# Altium footprint library ADI.PcbLib: 25 footprints (part 3 of 4)
Each footprint in its own frame and in the unit in brackets; x right, y up, seen from the top. Pads: shape width x height; smd on the part's side, far side on the other; paste and mask are expansions set on the pad; w line width, h text height; cw(c..) or ccw(c..) is an arc to the next point about the centre after c.
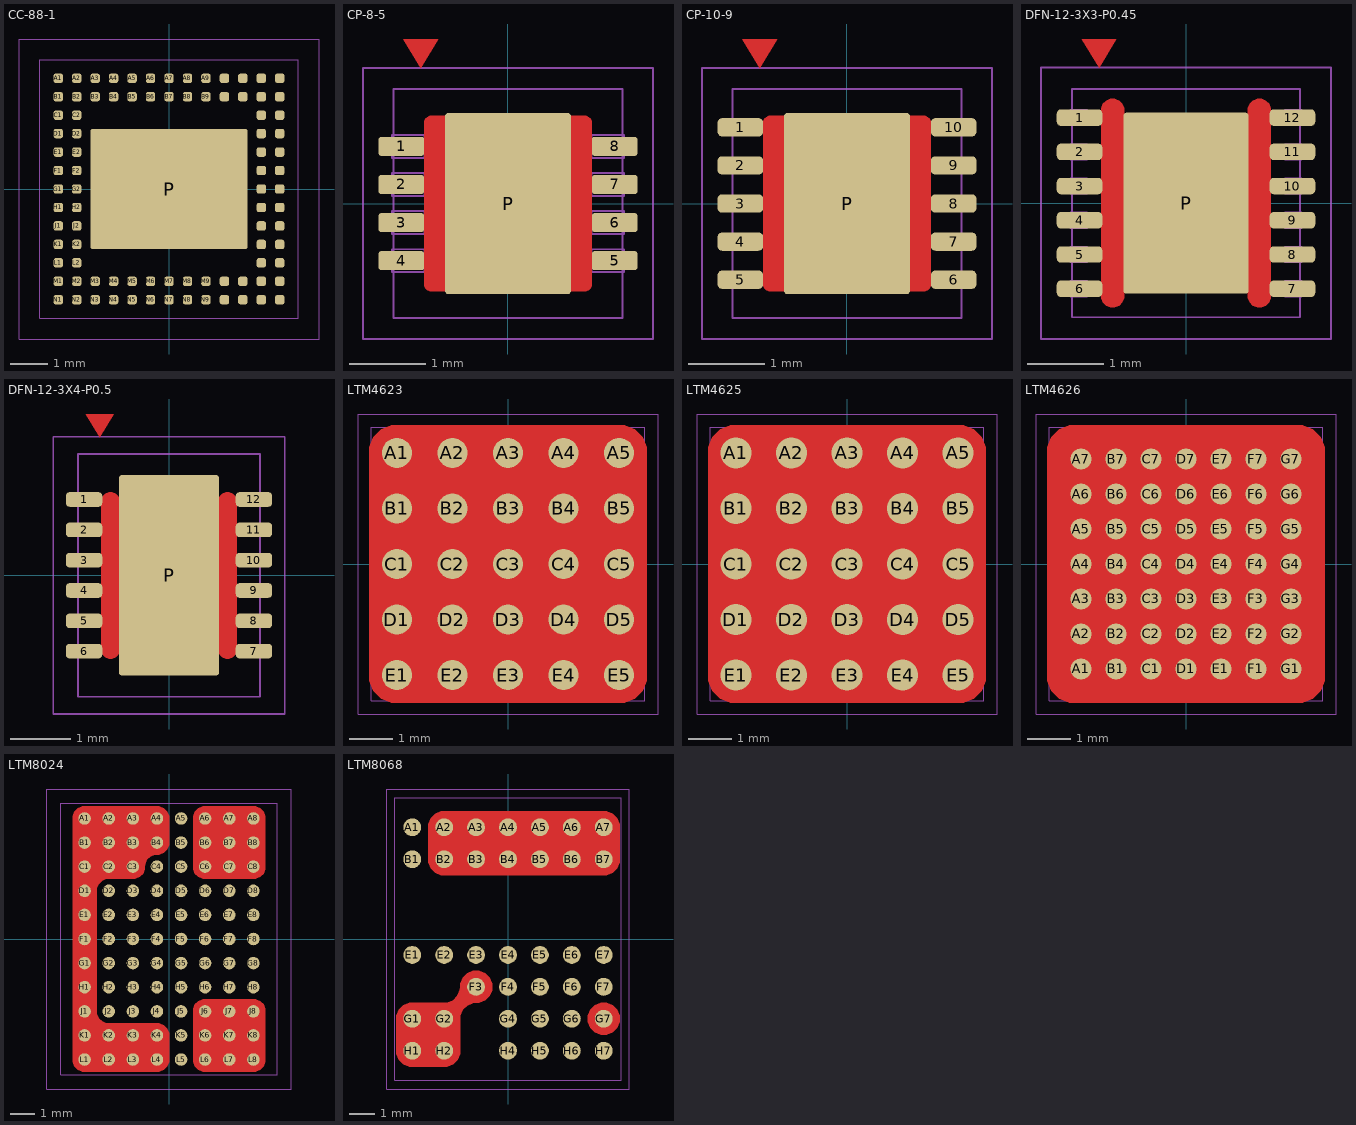
[diagram p2: the footprints below, top view; thin cyan lines are the x and y axes]

## CC-88-1 [mil]
height 31.5
pads (89):
  rrect50% 10x10 smd mask+1.5: A1(-118.11,118.11) A2(-98.42,118.11) A3(-78.74,118.11) A4(-59.05,118.11) A5(-39.37,118.11) A6(-19.68,118.11) A7(0,118.11) A8(19.68,118.11) A9(39.37,118.11) A10(59.05,118.11) A11(78.74,118.11) A12(98.42,118.11) A13(118.11,118.11) B1(-118.11,98.42) B2(-98.42,98.42) B3(-78.74,98.42) B4(-59.05,98.42) B5(-39.37,98.42) B6(-19.68,98.42) B7(0,98.42) B8(19.68,98.42) B9(39.37,98.42) B10(59.05,98.42) B11(78.74,98.42) B12(98.42,98.42) B13(118.11,98.42) C1(-118.11,78.74) C2(-98.42,78.74) C12(98.42,78.74) C13(118.11,78.74) D1(-118.11,59.05) D2(-98.42,59.05) D12(98.42,59.05) D13(118.11,59.05) E1(-118.11,39.37) E2(-98.42,39.37) E12(98.42,39.37) E13(118.11,39.37) F1(-118.11,19.68) F2(-98.42,19.68) F12(98.42,19.68) F13(118.11,19.68) G1(-118.11,0) G2(-98.42,0) G12(98.42,0) G13(118.11,0) H1(-118.11,-19.68) H2(-98.42,-19.68) H12(98.42,-19.68) H13(118.11,-19.68) J1(-118.11,-39.37) J2(-98.42,-39.37) J12(98.42,-39.37) J13(118.11,-39.37) K1(-118.11,-59.05) K2(-98.42,-59.05) K12(98.42,-59.05) K13(118.11,-59.05) L1(-118.11,-78.74) L2(-98.42,-78.74) L12(98.42,-78.74) L13(118.11,-78.74) M1(-118.11,-98.42) M2(-98.42,-98.42) M3(-78.74,-98.42) M4(-59.05,-98.42) M5(-39.37,-98.42) M6(-19.68,-98.42) M7(0,-98.42) M8(19.68,-98.42) M9(39.37,-98.42) M10(59.05,-98.42) M11(78.74,-98.42) M12(98.42,-98.42) M13(118.11,-98.42) N1(-118.11,-118.11) N2(-98.42,-118.11) N3(-78.74,-118.11) N4(-59.05,-118.11) N5(-39.37,-118.11) N6(-19.68,-118.11) N7(0,-118.11) N8(19.68,-118.11) N9(39.37,-118.11) N10(59.05,-118.11) N11(78.74,-118.11) N12(98.42,-118.11) N13(118.11,-118.11)
  rrect3% 167.32x127.95 smd paste-787.4 mask+1.5: P(0,0)
Top Paste:
  rectangle: -65,-60 -55,-50
  rectangle: -50,-60 -40,-50
  region: -25,-60 -25,-50 -35,-50 -35,-60
  rectangle: -20,-60 -10,-50
  rectangle: 25,-60 35,-50
  rectangle: 40,-60 50,-50
  rectangle: 55,-60 65,-50
  rectangle: 70,-60 80,-50
  rectangle: 10,-60 20,-50
  rectangle: -5,-60 5,-50
  rectangle: -80,-60 -70,-50
  rectangle: -65,-45 -55,-35
  rectangle: -50,-45 -40,-35
  region: -25,-45 -25,-35 -35,-35 -35,-45
  rectangle: -20,-45 -10,-35
  rectangle: 25,-45 35,-35
  rectangle: 40,-45 50,-35
  rectangle: 55,-45 65,-35
  rectangle: 70,-45 80,-35
  rectangle: 10,-45 20,-35
  rectangle: -5,-45 5,-35
  rectangle: -80,-45 -70,-35
  rectangle: -65,-30 -55,-20
  rectangle: -50,-30 -40,-20
  region: -25,-30 -25,-20 -35,-20 -35,-30
  rectangle: -20,-30 -10,-20
  rectangle: 25,-30 35,-20
  rectangle: 40,-30 50,-20
  rectangle: 55,-30 65,-20
  rectangle: 70,-30 80,-20
  rectangle: 10,-30 20,-20
  rectangle: -5,-30 5,-20
  rectangle: -80,-30 -70,-20
  rectangle: -65,-15 -55,-5
  rectangle: -50,-15 -40,-5
  region: -25,-15 -25,-5 -35,-5 -35,-15
  rectangle: -20,-15 -10,-5
  rectangle: 25,-15 35,-5
  rectangle: 40,-15 50,-5
  rectangle: 55,-15 65,-5
  rectangle: 70,-15 80,-5
  rectangle: 10,-15 20,-5
  rectangle: -5,-15 5,-5
  rectangle: -80,-15 -70,-5
  rectangle: -65,5 -55,15
  rectangle: -50,5 -40,15
  region: -25,5 -25,15 -35,15 -35,5
  rectangle: -20,5 -10,15
  rectangle: 25,5 35,15
  rectangle: 40,5 50,15
  rectangle: 55,5 65,15
  rectangle: 70,5 80,15
  rectangle: 10,5 20,15
  rectangle: -5,5 5,15
  rectangle: -80,5 -70,15
  rectangle: -65,20 -55,30
  rectangle: -50,20 -40,30
  region: -25,20 -25,30 -35,30 -35,20
  rectangle: -20,20 -10,30
  rectangle: 25,20 35,30
  rectangle: 40,20 50,30
  rectangle: 55,20 65,30
  rectangle: 70,20 80,30
  rectangle: 10,20 20,30
  rectangle: -5,20 5,30
  rectangle: -80,20 -70,30
  rectangle: -65,35 -55,45
  rectangle: -50,35 -40,45
  region: -25,35 -25,45 -35,45 -35,35
  rectangle: -20,35 -10,45
  rectangle: 25,35 35,45
  rectangle: 40,35 50,45
  rectangle: 55,35 65,45
  rectangle: 70,35 80,45
  rectangle: 10,35 20,45
  rectangle: -5,35 5,45
  rectangle: -80,35 -70,45
  rectangle: -65,50 -55,60
  rectangle: -50,50 -40,60
  region: -25,50 -25,60 -35,60 -35,50
  rectangle: -20,50 -10,60
  rectangle: 25,50 35,60
  rectangle: 40,50 50,60
  rectangle: 55,50 65,60
  rectangle: 70,50 80,60
  rectangle: 10,50 20,60
  rectangle: -5,50 5,60
  rectangle: -80,50 -70,60
Top Solder:
  region: 140.26,128.26 140.26,127.46 140.87,125.99 141.99,124.87 143.46,124.26 144.26,124.26 145.05,124.26 146.52,124.87 147.65,125.99 148.26,127.46 148.26,128.26 148.26,144.26 148.26,145.06 147.65,146.53 146.52,147.65 145.05,148.26 144.26,148.26 128.26,148.26 127.46,148.26 125.99,147.65 124.87,146.53 124.26,145.06 124.26,144.26 124.26,143.46 124.87,141.99 125.99,140.87 127.46,140.26 128.26,140.26 138.26,140.26 138.65,140.22 139.37,139.92 139.92,139.37 140.22,138.65 140.26,138.26
  region: -140.26,-128.26 -140.26,-127.46 -140.87,-125.99 -141.99,-124.87 -143.46,-124.26 -144.26,-124.26 -145.05,-124.26 -146.52,-124.87 -147.65,-125.99 -148.26,-127.46 -148.26,-128.26 -148.26,-144.26 -148.26,-145.06 -147.65,-146.53 -146.52,-147.65 -145.05,-148.26 -144.26,-148.26 -128.26,-148.26 -127.46,-148.26 -125.99,-147.65 -124.87,-146.53 -124.26,-145.06 -124.26,-144.26 -124.26,-143.46 -124.87,-141.99 -125.99,-140.87 -127.46,-140.26 -128.26,-140.26 -138.26,-140.26 -138.65,-140.22 -139.37,-139.92 -139.92,-139.37 -140.22,-138.65 -140.26,-138.26
  region: 128.26,-140.26 127.46,-140.26 125.99,-140.87 124.87,-141.99 124.26,-143.46 124.26,-144.26 124.26,-145.05 124.87,-146.52 125.99,-147.65 127.46,-148.26 128.26,-148.26 144.26,-148.26 145.06,-148.26 146.53,-147.65 147.65,-146.52 148.26,-145.05 148.26,-144.26 148.26,-128.26 148.26,-127.46 147.65,-125.99 146.53,-124.87 145.06,-124.26 144.26,-124.26 143.46,-124.26 141.99,-124.87 140.87,-125.99 140.26,-127.46 140.26,-128.26 140.26,-138.26 140.22,-138.65 139.92,-139.37 139.37,-139.92 138.65,-140.22 138.26,-140.26
  region: -148.26,148.26 -148.26,119.72 -119.72,148.26
Top Designator:
  text ".Designator" at -127.64,-12.5 h35
Top Courtyard:
  lines w1: -160,-160 160,-160 160,160 -160,160 -160,-160
Top Component Outline:
  lines w1: -137.8,-137.8 137.8,-137.8 137.8,137.8 -137.8,137.8 -137.8,-137.8
3D body: height 31.5, standoff 0.39, extent -137.8,-137.8 137.8,137.8

## CP-8-5 [mm]
height 0.9
pads (9):
  rrect30% 0.6x0.25 smd mask+0.051: 1(-1.4,0.75) 2(-1.4,0.25) 3(-1.4,-0.25) 4(-1.4,-0.75) 5(1.4,-0.75) 6(1.4,-0.25) 7(1.4,0.25) 8(1.4,0.75)
  rrect5% 1.65x2.38 smd paste-5.08 mask+0.051: P(0,0)
Top Layer:
  region: -1.143,1.778 -0.914,2.159 -1.372,2.159
  pour cut-out: -0.825,1.149 -1.011,1.149 -1.029,1.149 -1.062,1.135 -1.086,1.11 -1.1,1.078 -1.1,1.06 -1.1,-1.06 -1.1,-1.078 -1.086,-1.11 -1.062,-1.135 -1.029,-1.149 -1.011,-1.149 -0.825,-1.149
  pour cut-out: 0.825,-1.149 1.011,-1.149 1.029,-1.149 1.062,-1.135 1.086,-1.11 1.1,-1.078 1.1,-1.06 1.1,1.06 1.1,1.078 1.086,1.11 1.062,1.135 1.029,1.149 1.011,1.149 0.825,1.149
Top Paste:
  rectangle: -0.762,0.559 -0.127,1.168
  rectangle: -0.762,-0.305 -0.127,0.305
  rectangle: -0.762,-1.168 -0.127,-0.559
  rectangle: 0.127,-1.168 0.762,-0.559
  rectangle: 0.127,-0.305 0.762,0.305
  rectangle: 0.127,0.559 0.762,1.168
Top Courtyard:
  lines w0.025: -1.905,-1.778 1.905,-1.778 1.905,1.778 -1.905,1.778 -1.905,-1.778
Top Component Outline:
  lines w0.025: -1.524,-0.9 -1.524,-0.6 -1.096,-0.6 -1.096,-0.9 -1.524,-0.9 ; -1.524,-0.4 -1.524,-0.1 -1.096,-0.1 -1.096,-0.4 -1.524,-0.4 ; -1.524,0.1 -1.096,0.1 -1.096,0.4 -1.524,0.4 -1.524,0.1 ; -1.524,0.6 -1.524,0.9 -1.096,0.9 -1.096,0.6 -1.524,0.6 ; -1.5,-1.5 1.5,-1.5 1.5,1.5 -1.5,1.5 -1.5,-1.5 ; 1.096,-0.9 1.524,-0.9 1.524,-0.6 1.096,-0.6 1.096,-0.9 ; 1.096,-0.4 1.096,-0.1 1.524,-0.1 1.524,-0.4 1.096,-0.4 ; 1.096,0.1 1.524,0.1 1.524,0.4 1.096,0.4 1.096,0.1 ; 1.096,0.6 1.524,0.6 1.524,0.9 1.096,0.9 1.096,0.6
3D body: height 0.2, standoff 0, extent 1.096,0.6 1.524,0.9
3D body: height 0.2, standoff 0, extent 1.096,-0.9 1.524,-0.6
3D body: height 0.2, standoff 0, extent 1.096,-0.4 1.524,-0.1
3D body: height 0.2, standoff 0, extent 1.096,0.1 1.524,0.4
3D body: height 0.2, standoff 0, extent -1.524,-0.4 -1.096,-0.1
3D body: height 0.2, standoff 0, extent -1.524,0.1 -1.096,0.4
3D body: height 0.2, standoff 0, extent -1.524,0.6 -1.096,0.9
3D body: height 0.2, standoff 0, extent -1.524,-0.9 -1.096,-0.6
3D body: height 0.76, standoff 0.74, extent -1.167,0.864 -0.863,1.168
3D body: height 0.75, standoff 0.05, extent -1.5,-1.5 1.5,1.5

## CP-10-9 [mm]
height 0.75
pads (11):
  rrect50% 0.6x0.24 smd mask+0.051: 1(-1.4,1) 2(-1.4,0.5) 3(-1.4,0) 4(-1.4,-0.5) 5(-1.4,-1) 6(1.4,-1) 7(1.4,-0.5) 8(1.4,0) 9(1.4,0.5) 10(1.4,1)
  rrect5% 1.65x2.38 smd paste-5.08 mask+0.051: P(0,0)
Top Layer:
  pour cut-out: 0.825,-1.149 1.011,-1.149 1.029,-1.149 1.062,-1.135 1.086,-1.11 1.1,-1.078 1.1,-1.06 1.1,1.06 1.1,1.078 1.086,1.11 1.062,1.135 1.029,1.149 1.011,1.149 0.825,1.149
  pour cut-out: -0.825,1.149 -1.011,1.149 -1.029,1.149 -1.062,1.135 -1.086,1.11 -1.1,1.078 -1.1,1.06 -1.1,-1.06 -1.1,-1.078 -1.086,-1.11 -1.062,-1.135 -1.029,-1.149 -1.011,-1.149 -0.825,-1.149
  region: -1.143,1.778 -0.914,2.159 -1.372,2.159
Top Paste:
  rectangle: 0.127,0.559 0.762,1.168
  rectangle: 0.127,-0.305 0.762,0.305
  rectangle: 0.127,-1.168 0.762,-0.559
  rectangle: -0.762,-1.168 -0.127,-0.559
  rectangle: -0.762,-0.305 -0.127,0.305
  rectangle: -0.762,0.559 -0.127,1.168
Top Courtyard:
  lines w0.025: -1.905,-1.778 1.905,-1.778 1.905,1.778 -1.905,1.778 -1.905,-1.778
Top Component Outline:
  lines w0.025: -1.52,-1.1 -1.3,-1.1 -1.3,-0.9 -1.52,-0.9 -1.52,-1.1 ; -1.52,-0.6 -1.52,-0.4 -1.3,-0.4 -1.3,-0.6 -1.52,-0.6 ; -1.52,-0.1 -1.3,-0.1 -1.3,0.1 -1.52,0.1 -1.52,-0.1 ; -1.52,0.4 -1.3,0.4 -1.3,0.6 -1.52,0.6 -1.52,0.4 ; -1.52,0.9 -1.52,1.1 -1.3,1.1 -1.3,0.9 -1.52,0.9 ; -1.5,-1.5 1.5,-1.5 1.5,1.5 -1.5,1.5 -1.5,-1.5 ; 1.3,-1.1 1.3,-0.9 1.52,-0.9 1.52,-1.1 1.3,-1.1 ; 1.3,-0.6 1.52,-0.6 1.52,-0.4 1.3,-0.4 1.3,-0.6 ; 1.3,-0.1 1.52,-0.1 1.52,0.1 1.3,0.1 1.3,-0.1 ; 1.3,0.4 1.3,0.6 1.52,0.6 1.52,0.4 1.3,0.4 ; 1.3,0.9 1.52,0.9 1.52,1.1 1.3,1.1 1.3,0.9
3D body: height 0.76, standoff 0.74, extent -1.167,0.864 -0.863,1.168
3D body: height 0.2, standoff 0, extent 1.295,0.4 1.52,0.6
3D body: height 0.2, standoff 0, extent 1.295,-0.1 1.52,0.1
3D body: height 0.2, standoff 0, extent 1.295,0.9 1.52,1.1
3D body: height 0.2, standoff 0, extent 1.295,-1.1 1.52,-0.9
3D body: height 0.2, standoff 0, extent 1.295,-0.6 1.52,-0.4
3D body: height 0.2, standoff 0, extent -1.52,0.4 -1.295,0.6
3D body: height 0.2, standoff 0, extent -1.52,0.9 -1.295,1.1
3D body: height 0.2, standoff 0, extent -1.52,-1.1 -1.295,-0.9
3D body: height 0.2, standoff 0, extent -1.52,-0.1 -1.295,0.1
3D body: height 0.2, standoff 0, extent -1.52,-0.6 -1.295,-0.4
3D body: height 0.75, standoff 0.05, extent -1.5,-1.5 1.5,1.5

## DFN-12-3X3-P0.45 [mm]
height 0.75
pads (13):
  rrect50% 0.6x0.216 smd mask+0.051: 1(-1.4,1.125) 2(-1.4,0.675) 3(-1.4,0.225) 4(-1.4,-0.225) 5(-1.4,-0.675) 6(-1.4,-1.125) 7(1.4,-1.125) 8(1.4,-0.675) 9(1.4,-0.225) 10(1.4,0.225) 11(1.4,0.675) 12(1.4,1.125)
  rrect5% 1.65x2.38 smd paste-5.08 mask+0.051: P(0,0)
Top Layer:
  pour cut-out: -0.965,-1.372 -0.935,-1.372 -0.879,-1.348 -0.836,-1.306 -0.813,-1.25 -0.813,-1.219 -0.813,1.219 -0.813,1.25 -0.836,1.306 -0.879,1.348 -0.935,1.372 -0.965,1.372 -0.996,1.372 -1.052,1.348 -1.094,1.306 -1.118,1.25 -1.118,1.219 -1.118,-1.219 -1.118,-1.25 -1.094,-1.306 -1.052,-1.348 -0.996,-1.372
  pour cut-out: 0.965,1.372 0.935,1.372 0.879,1.348 0.836,1.306 0.813,1.25 0.813,1.219 0.813,-1.219 0.813,-1.25 0.836,-1.306 0.879,-1.348 0.935,-1.372 0.965,-1.372 0.996,-1.372 1.052,-1.348 1.094,-1.306 1.118,-1.25 1.118,-1.219 1.118,1.219 1.118,1.25 1.094,1.306 1.052,1.348 0.996,1.372
  region: -1.143,1.778 -0.914,2.159 -1.372,2.159
Top Paste:
  region: 0.762,-0.254 -0.762,-0.254 -0.762,-1.118 0.762,-1.118
  rectangle: -0.762,0.233 0.762,1.118
Top Designator:
  text ".Designator" at 0.317,-3.242 h0.89
Top Courtyard:
  lines w0.025: -1.905,-1.786 1.905,-1.786 1.905,1.786 -1.905,1.786 -1.905,-1.786
Top Component Outline:
  lines w0.025: -1.52,-1.225 -1.52,-1.025 -1.3,-1.025 -1.3,-1.225 -1.52,-1.225 ; -1.52,-0.775 -1.3,-0.775 -1.3,-0.575 -1.52,-0.575 -1.52,-0.775 ; -1.52,-0.325 -1.52,-0.125 -1.3,-0.125 -1.3,-0.325 -1.52,-0.325 ; -1.52,0.125 -1.3,0.125 -1.3,0.325 -1.52,0.325 -1.52,0.125 ; -1.52,0.575 -1.3,0.575 -1.3,0.775 -1.52,0.775 -1.52,0.575 ; -1.52,1.025 -1.52,1.225 -1.3,1.225 -1.3,1.025 -1.52,1.025 ; -1.5,-1.5 -1.5,1.5 1.5,1.5 1.5,-1.5 -1.5,-1.5 ; 1.3,-1.225 1.52,-1.225 1.52,-1.025 1.3,-1.025 1.3,-1.225 ; 1.3,-0.775 1.3,-0.575 1.52,-0.575 1.52,-0.775 1.3,-0.775 ; 1.3,-0.325 1.52,-0.325 1.52,-0.125 1.3,-0.125 1.3,-0.325 ; 1.3,0.125 1.52,0.125 1.52,0.325 1.3,0.325 1.3,0.125 ; 1.3,0.575 1.3,0.775 1.52,0.775 1.52,0.575 1.3,0.575 ; 1.3,1.025 1.52,1.025 1.52,1.225 1.3,1.225 1.3,1.025
3D body: height 0.9, standoff 0.05, extent -1.5,-1.5 1.5,1.5
3D body: height 0.2, standoff 0, extent 1.295,-1.225 1.52,-1.025
3D body: height 0.2, standoff 0, extent -1.52,-1.225 -1.295,-1.025
3D body: height 0.2, standoff 0, extent -1.52,-0.325 -1.295,-0.125
3D body: height 0.2, standoff 0, extent -1.52,0.125 -1.295,0.325
3D body: height 0.2, standoff 0, extent -1.52,-0.775 -1.295,-0.575
3D body: height 0.2, standoff 0, extent -1.52,1.025 -1.295,1.225
3D body: height 0.2, standoff 0, extent -1.52,0.575 -1.295,0.775
3D body: height 0.2, standoff 0, extent 1.295,-0.325 1.52,-0.125
3D body: height 0.2, standoff 0, extent 1.295,-0.775 1.52,-0.575
3D body: height 0.2, standoff 0, extent 1.295,1.025 1.52,1.225
3D body: height 0.2, standoff 0, extent 1.295,0.125 1.52,0.325
3D body: height 0.2, standoff 0, extent 1.295,0.575 1.52,0.775
3D body: height 0.91, standoff 0.89, extent -1.167,0.864 -0.863,1.168

## DFN-12-3X4-P0.5 [mm]
height 0.75
pads (13):
  rrect50% 0.6x0.24 smd mask+0.051: 1(-1.4,1.25) 2(-1.4,0.75) 3(-1.4,0.25) 4(-1.4,-0.25) 5(-1.4,-0.75) 6(-1.4,-1.25) 7(1.4,-1.25) 8(1.4,-0.75) 9(1.4,-0.25) 10(1.4,0.25) 11(1.4,0.75) 12(1.4,1.25)
  rrect5% 1.65x3.3 smd paste-5.08 mask+0.051: P(0,0)
Top Layer:
  pour cut-out: -0.965,-1.372 -0.935,-1.372 -0.879,-1.348 -0.836,-1.306 -0.813,-1.25 -0.813,-1.219 -0.813,1.219 -0.813,1.25 -0.836,1.306 -0.879,1.348 -0.935,1.372 -0.965,1.372 -0.996,1.372 -1.052,1.348 -1.094,1.306 -1.118,1.25 -1.118,1.219 -1.118,-1.219 -1.118,-1.25 -1.094,-1.306 -1.052,-1.348 -0.996,-1.372
  pour cut-out: 0.965,1.372 0.935,1.372 0.879,1.348 0.836,1.306 0.813,1.25 0.813,1.219 0.813,-1.219 0.813,-1.25 0.836,-1.306 0.879,-1.348 0.935,-1.372 0.965,-1.372 0.996,-1.372 1.052,-1.348 1.094,-1.306 1.118,-1.25 1.118,-1.219 1.118,1.219 1.118,1.25 1.094,1.306 1.052,1.348 0.996,1.372
  region: -1.143,2.278 -0.914,2.659 -1.372,2.659
Top Paste:
  region: 0.762,0.381 -0.762,0.381 -0.762,-0.381 0.762,-0.381
  region: 0.762,-0.813 -0.762,-0.813 -0.762,-1.575 0.762,-1.575
  rectangle: -0.762,0.813 0.762,1.575
Top Designator:
  text ".Designator" at 0.317,-3.242 h0.89
Top Courtyard:
  lines w0.025: -1.905,-2.286 -1.905,2.286 1.905,2.286 1.905,-2.286 -1.905,-2.286
Top Component Outline:
  lines w0.025: -1.52,-1.35 -1.3,-1.35 -1.3,-1.15 -1.52,-1.15 -1.52,-1.35 ; -1.52,-0.85 -1.52,-0.65 -1.3,-0.65 -1.3,-0.85 -1.52,-0.85 ; -1.52,-0.35 -1.3,-0.35 -1.3,-0.15 -1.52,-0.15 -1.52,-0.35 ; -1.52,0.15 -1.52,0.35 -1.3,0.35 -1.3,0.15 -1.52,0.15 ; -1.52,0.65 -1.52,0.85 -1.3,0.85 -1.3,0.65 -1.52,0.65 ; -1.52,1.15 -1.3,1.15 -1.3,1.35 -1.52,1.35 -1.52,1.15 ; -1.5,-2 1.5,-2 1.5,2 -1.5,2 -1.5,-2 ; 1.3,-1.35 1.3,-1.15 1.52,-1.15 1.52,-1.35 1.3,-1.35 ; 1.3,-0.85 1.52,-0.85 1.52,-0.65 1.3,-0.65 1.3,-0.85 ; 1.3,-0.35 1.3,-0.15 1.52,-0.15 1.52,-0.35 1.3,-0.35 ; 1.3,0.15 1.3,0.35 1.52,0.35 1.52,0.15 1.3,0.15 ; 1.3,0.65 1.52,0.65 1.52,0.85 1.3,0.85 1.3,0.65 ; 1.3,1.15 1.3,1.35 1.52,1.35 1.52,1.15 1.3,1.15
3D body: height 0.9, standoff 0.05, extent -1.5,-2 1.5,2
3D body: height 0.2, standoff 0, extent 1.295,-1.35 1.52,-1.15
3D body: height 0.2, standoff 0, extent -1.52,-1.35 -1.295,-1.15
3D body: height 0.2, standoff 0, extent -1.52,-0.35 -1.295,-0.15
3D body: height 0.2, standoff 0, extent -1.52,0.15 -1.295,0.35
3D body: height 0.2, standoff 0, extent -1.52,-0.85 -1.295,-0.65
3D body: height 0.2, standoff 0, extent -1.52,1.15 -1.295,1.35
3D body: height 0.2, standoff 0, extent -1.52,0.65 -1.295,0.85
3D body: height 0.2, standoff 0, extent 1.295,-0.35 1.52,-0.15
3D body: height 0.2, standoff 0, extent 1.295,-0.85 1.52,-0.65
3D body: height 0.2, standoff 0, extent 1.295,1.15 1.52,1.35
3D body: height 0.2, standoff 0, extent 1.295,0.15 1.52,0.35
3D body: height 0.2, standoff 0, extent 1.295,0.65 1.52,0.85
3D body: height 0.91, standoff 0.89, extent -1.167,1.364 -0.863,1.668

## LTM4623 [mil]
pads (25):
  round 27 smd mask-2: A1(-100,100) A2(-50,100) A3(0,100) A4(50,100) A5(100,100) B1(-100,50) B2(-50,50) B3(0,50) B4(50,50) B5(100,50) C1(-100,0) C2(-50,0) C3(0,0) C4(50,0) C5(100,0) D1(-100,-50) D2(-50,-50) D3(0,-50) D4(50,-50) D5(100,-50) E1(-100,-100) E2(-50,-100) E3(0,-100) E4(50,-100) E5(100,-100)
Top Layer:
  pour cut-out: -100,125 -104.97,125 -114.16,121.19 -121.19,114.16 -125,104.97 -125,100 -125,-100 -125,-104.97 -121.19,-114.16 -114.16,-121.19 -104.97,-125 -100,-125 100,-125 104.97,-125 114.16,-121.19 121.19,-114.16 125,-104.97 125,-100 125,100 125,104.97 121.19,114.16 114.16,121.19 104.97,125 100,125
Top Solder:
  region: -125.5,-113.5 -125.5,-112.7 -126.1,-111.23 -127.23,-110.11 -128.7,-109.5 -129.5,-109.5 -130.29,-109.5 -131.76,-110.11 -132.89,-111.23 -133.5,-112.7 -133.5,-113.5 -133.5,-129.5 -133.5,-130.29 -132.89,-131.76 -131.76,-132.89 -130.29,-133.5 -129.5,-133.5 -113.5,-133.5 -112.7,-133.5 -111.23,-132.89 -110.1,-131.76 -109.5,-130.29 -109.5,-129.5 -109.5,-128.7 -110.1,-127.23 -111.23,-126.11 -112.7,-125.5 -113.5,-125.5 -123.5,-125.5 -123.89,-125.46 -124.61,-125.16 -125.16,-124.61 -125.46,-123.89 -125.5,-123.5
  region: 113.5,-125.5 112.7,-125.5 111.23,-126.1 110.11,-127.23 109.5,-128.7 109.5,-129.5 109.5,-130.29 110.11,-131.76 111.23,-132.89 112.7,-133.5 113.5,-133.5 129.5,-133.5 130.29,-133.5 131.76,-132.89 132.89,-131.76 133.5,-130.29 133.5,-129.5 133.5,-113.5 133.5,-112.7 132.89,-111.23 131.76,-110.1 130.29,-109.5 129.5,-109.5 128.7,-109.5 127.23,-110.1 126.11,-111.23 125.5,-112.7 125.5,-113.5 125.5,-123.5 125.46,-123.89 125.16,-124.61 124.61,-125.16 123.89,-125.46 123.5,-125.5
  region: 125.5,113.5 125.5,112.7 126.1,111.23 127.23,110.11 128.7,109.5 129.5,109.5 130.29,109.5 131.76,110.11 132.89,111.23 133.5,112.7 133.5,113.5 133.5,129.5 133.5,130.29 132.89,131.76 131.76,132.89 130.29,133.5 129.5,133.5 113.5,133.5 112.7,133.5 111.23,132.89 110.1,131.76 109.5,130.29 109.5,129.5 109.5,128.7 110.1,127.23 111.23,126.11 112.7,125.5 113.5,125.5 123.5,125.5 123.89,125.46 124.61,125.16 125.16,124.61 125.46,123.89 125.5,123.5
  region: -133.5,133.5 -133.5,104.95 -104.95,133.5
Top Designator:
  text ".Designator" at -127.64,-12.5 h35
Top Courtyard:
  lines w1: -135,-135 135,-135 135,135 -135,135 -135,-135
Top Component Outline:
  lines w1: -123.03,-123.03 123.03,-123.03 123.03,123.03 -123.03,123.03 -123.03,-123.03
3D body: height 20.81, standoff -2.81, extent 88.28,-111.97 111.72,-88.35
3D body: height 20.81, standoff -2.81, extent -111.72,38.03 -88.28,61.65
3D body: height 20.81, standoff -2.81, extent -111.72,-11.97 -88.28,11.65
3D body: height 20.81, standoff -2.81, extent 38.28,38.03 61.73,61.65
3D body: height 20.81, standoff -2.81, extent -61.72,88.03 -38.27,111.65
3D body: height 20.81, standoff -2.81, extent -111.72,-61.97 -88.28,-38.35
3D body: height 20.81, standoff -2.81, extent 38.28,-61.97 61.73,-38.35
3D body: height 20.81, standoff -2.81, extent -11.72,88.03 11.72,111.65
3D body: height 20.81, standoff -2.81, extent -11.72,-11.97 11.72,11.65
3D body: height 20.81, standoff -2.81, extent -61.72,-111.97 -38.27,-88.35
3D body: height 20.81, standoff -2.81, extent -61.72,-11.97 -38.27,11.65
3D body: height 20.81, standoff -2.81, extent 88.28,38.03 111.72,61.65
3D body: height 20.81, standoff -2.81, extent -11.72,-111.97 11.72,-88.35
3D body: height 20.81, standoff -2.81, extent 88.28,-61.97 111.72,-38.35
3D body: height 20.81, standoff -2.81, extent 38.28,88.03 61.73,111.65
3D body: height 20.81, standoff -2.81, extent -111.72,88.03 -88.28,111.65
3D body: height 95.28, standoff 19.68, extent -123.03,-123.03 123.03,123.03
3D body: height 20.81, standoff -2.81, extent 88.28,-11.97 111.72,11.65
3D body: height 20.81, standoff -2.81, extent 38.28,-111.97 61.73,-88.35
3D body: height 20.81, standoff -2.81, extent -111.72,-111.97 -88.28,-88.35
3D body: height 20.81, standoff -2.81, extent -61.72,38.03 -38.27,61.65
3D body: height 20.81, standoff -2.81, extent -11.72,38.03 11.72,61.65
3D body: height 20.81, standoff -2.81, extent 38.28,-11.97 61.73,11.65
3D body: height 20.81, standoff -2.81, extent 88.28,88.03 111.72,111.65
3D body: height 20.81, standoff -2.81, extent -11.72,-61.97 11.72,-38.35
3D body: height 20.81, standoff -2.81, extent -61.72,-61.97 -38.27,-38.35
3D body: height 95.3, standoff 95, extent -89.92,70.02 -70,89.98

## LTM4625 [mil]
pads (25):
  round 28 smd mask-1.5: A1(-100,100) A2(-50,100) A3(0,100) A4(50,100) A5(100,100) B1(-100,50) B2(-50,50) B3(0,50) B4(50,50) B5(100,50) C1(-100,0) C2(-50,0) C3(0,0) C4(50,0) C5(100,0) D1(-100,-50) D2(-50,-50) D3(0,-50) D4(50,-50) D5(100,-50) E1(-100,-100) E2(-50,-100) E3(0,-100) E4(50,-100) E5(100,-100)
Top Layer:
  pour cut-out: -100,125 -104.97,125 -114.16,121.19 -121.19,114.16 -125,104.97 -125,100 -125,-100 -125,-104.97 -121.19,-114.16 -114.16,-121.19 -104.97,-125 -100,-125 100,-125 104.97,-125 114.16,-121.19 121.19,-114.16 125,-104.97 125,-100 125,100 125,104.97 121.19,114.16 114.16,121.19 104.97,125 100,125
Top Solder:
  region: -125.5,-113.5 -125.5,-112.7 -126.1,-111.23 -127.23,-110.11 -128.7,-109.5 -129.5,-109.5 -130.29,-109.5 -131.76,-110.11 -132.89,-111.23 -133.5,-112.7 -133.5,-113.5 -133.5,-129.5 -133.5,-130.29 -132.89,-131.76 -131.76,-132.89 -130.29,-133.5 -129.5,-133.5 -113.5,-133.5 -112.7,-133.5 -111.23,-132.89 -110.1,-131.76 -109.5,-130.29 -109.5,-129.5 -109.5,-128.7 -110.1,-127.23 -111.23,-126.11 -112.7,-125.5 -113.5,-125.5 -123.5,-125.5 -123.89,-125.46 -124.61,-125.16 -125.16,-124.61 -125.46,-123.89 -125.5,-123.5
  region: 113.5,-125.5 112.7,-125.5 111.23,-126.1 110.11,-127.23 109.5,-128.7 109.5,-129.5 109.5,-130.29 110.11,-131.76 111.23,-132.89 112.7,-133.5 113.5,-133.5 129.5,-133.5 130.29,-133.5 131.76,-132.89 132.89,-131.76 133.5,-130.29 133.5,-129.5 133.5,-113.5 133.5,-112.7 132.89,-111.23 131.76,-110.1 130.29,-109.5 129.5,-109.5 128.7,-109.5 127.23,-110.1 126.11,-111.23 125.5,-112.7 125.5,-113.5 125.5,-123.5 125.46,-123.89 125.16,-124.61 124.61,-125.16 123.89,-125.46 123.5,-125.5
  region: 125.5,113.5 125.5,112.7 126.1,111.23 127.23,110.11 128.7,109.5 129.5,109.5 130.29,109.5 131.76,110.11 132.89,111.23 133.5,112.7 133.5,113.5 133.5,129.5 133.5,130.29 132.89,131.76 131.76,132.89 130.29,133.5 129.5,133.5 113.5,133.5 112.7,133.5 111.23,132.89 110.1,131.76 109.5,130.29 109.5,129.5 109.5,128.7 110.1,127.23 111.23,126.11 112.7,125.5 113.5,125.5 123.5,125.5 123.89,125.46 124.61,125.16 125.16,124.61 125.46,123.89 125.5,123.5
  region: -133.5,133.5 -133.5,104.95 -104.95,133.5
Top Designator:
  text ".Designator" at -127.64,-12.5 h35
Top Courtyard:
  lines w1: -135,-135 -135,135 135,135 135,-135 -135,-135
Top Component Outline:
  lines w1: -123.03,-123.03 123.03,-123.03 123.03,123.03 -123.03,123.03 -123.03,-123.03
3D body: height 20.81, standoff -2.81, extent -61.72,38.03 -38.27,61.65
3D body: height 20.81, standoff -2.81, extent -11.72,88.03 11.72,111.65
3D body: height 20.81, standoff -2.81, extent 38.28,-111.97 61.73,-88.35
3D body: height 20.81, standoff -2.81, extent -11.72,38.03 11.72,61.65
3D body: height 20.81, standoff -2.81, extent -61.72,-11.97 -38.27,11.65
3D body: height 20.81, standoff -2.81, extent -61.72,-61.97 -38.27,-38.35
3D body: height 20.81, standoff -2.81, extent -11.72,-11.97 11.72,11.65
3D body: height 20.81, standoff -2.81, extent -11.72,-61.97 11.72,-38.35
3D body: height 20.81, standoff -2.81, extent 38.28,88.03 61.73,111.65
3D body: height 20.81, standoff -2.81, extent 88.28,-111.97 111.72,-88.35
3D body: height 20.81, standoff -2.81, extent -111.72,38.03 -88.28,61.65
3D body: height 20.81, standoff -2.81, extent 38.28,38.03 61.73,61.65
3D body: height 20.81, standoff -2.81, extent 88.28,-11.97 111.72,11.65
3D body: height 20.81, standoff -2.81, extent -111.72,-61.97 -88.28,-38.35
3D body: height 20.81, standoff -2.81, extent 38.28,-61.97 61.73,-38.35
3D body: height 196.85, standoff 19.68, extent -123.03,-123.03 123.03,123.03
3D body: height 20.81, standoff -2.81, extent -61.72,-111.97 -38.27,-88.35
3D body: height 20.81, standoff -2.81, extent -11.72,-111.97 11.72,-88.35
3D body: height 20.81, standoff -2.81, extent 88.28,88.03 111.72,111.65
3D body: height 20.81, standoff -2.81, extent -111.72,-11.97 -88.28,11.65
3D body: height 20.81, standoff -2.81, extent -111.72,88.03 -88.28,111.65
3D body: height 20.81, standoff -2.81, extent 88.28,38.03 111.72,61.65
3D body: height 20.81, standoff -2.81, extent 38.28,-11.97 61.73,11.65
3D body: height 20.81, standoff -2.81, extent -111.72,-111.97 -88.28,-88.35
3D body: height 196.9, standoff 196.6, extent -89.92,70.02 -70,89.98
3D body: height 20.81, standoff -2.81, extent -61.72,88.03 -38.27,111.65
3D body: height 20.81, standoff -2.81, extent 88.28,-61.97 111.72,-38.35

## LTM4626 [mil]
pads (49):
  round 19 smd mask-1.5: A1(-94.49,-94.49) A2(-94.49,-62.99) A3(-94.49,-31.5) A4(-94.49,0) A5(-94.49,31.5) A6(-94.49,62.99) A7(-94.49,94.49) B1(-62.99,-94.49) B2(-62.99,-62.99) B3(-62.99,-31.5) B4(-62.99,0) B5(-62.99,31.5) B6(-62.99,62.99) B7(-62.99,94.49) C1(-31.5,-94.49) C2(-31.5,-62.99) C3(-31.5,-31.5) C4(-31.5,0) C5(-31.5,31.5) C6(-31.5,62.99) C7(-31.5,94.49) D1(0,-94.49) D2(0,-62.99) D3(0,-31.5) D4(0,0) D5(0,31.5) D6(0,62.99) D7(0,94.49) E1(31.5,-94.49) E2(31.5,-62.99) E3(31.5,-31.5) E4(31.5,0) E5(31.5,31.5) E6(31.5,62.99) E7(31.5,94.49) F1(62.99,-94.49) F2(62.99,-62.99) F3(62.99,-31.5) F4(62.99,0) F5(62.99,31.5) F6(62.99,62.99) F7(62.99,94.49) G1(94.49,-94.49) G2(94.49,-62.99) G3(94.49,-31.5) G4(94.49,0) G5(94.49,31.5) G6(94.49,62.99) G7(94.49,94.49)
Top Layer:
  pour cut-out: -100,125 -104.97,125 -114.16,121.19 -121.19,114.16 -125,104.97 -125,100 -125,-100 -125,-104.97 -121.19,-114.16 -114.16,-121.19 -104.97,-125 -100,-125 100,-125 104.97,-125 114.16,-121.19 121.19,-114.16 125,-104.97 125,-100 125,100 125,104.97 121.19,114.16 114.16,121.19 104.97,125 100,125
Top Solder:
  region: -133.5,-133.5 -104.95,-133.5 -133.5,-104.95
  region: 113.5,-125.5 112.7,-125.5 111.23,-126.1 110.11,-127.23 109.5,-128.7 109.5,-129.5 109.5,-130.29 110.11,-131.76 111.23,-132.89 112.7,-133.5 113.5,-133.5 129.5,-133.5 130.29,-133.5 131.76,-132.89 132.89,-131.76 133.5,-130.29 133.5,-129.5 133.5,-113.5 133.5,-112.7 132.89,-111.23 131.76,-110.1 130.29,-109.5 129.5,-109.5 128.7,-109.5 127.23,-110.1 126.11,-111.23 125.5,-112.7 125.5,-113.5 125.5,-123.5 125.46,-123.89 125.16,-124.61 124.61,-125.16 123.89,-125.46 123.5,-125.5
  region: 125.49,113.5 125.49,112.7 126.1,111.23 127.23,110.11 128.7,109.5 129.49,109.5 130.29,109.5 131.76,110.11 132.89,111.23 133.49,112.7 133.49,113.5 133.49,129.5 133.49,130.29 132.89,131.76 131.76,132.89 130.29,133.5 129.49,133.5 113.49,133.5 112.7,133.5 111.23,132.89 110.1,131.76 109.49,130.29 109.49,129.5 109.49,128.7 110.1,127.23 111.23,126.11 112.7,125.5 113.49,125.5 123.49,125.5 123.88,125.46 124.61,125.16 125.16,124.61 125.46,123.89 125.49,123.5
  region: -113.5,125.5 -112.7,125.5 -111.23,126.11 -110.11,127.23 -109.5,128.7 -109.5,129.5 -109.5,130.29 -110.11,131.76 -111.23,132.89 -112.7,133.5 -113.5,133.5 -129.5,133.5 -130.29,133.5 -131.76,132.89 -132.89,131.76 -133.5,130.29 -133.5,129.5 -133.5,113.5 -133.5,112.7 -132.89,111.23 -131.76,110.11 -130.29,109.5 -129.5,109.5 -128.7,109.5 -127.23,110.11 -126.11,111.23 -125.5,112.7 -125.5,113.5 -125.5,123.5 -125.46,123.89 -125.16,124.61 -124.61,125.16 -123.89,125.46 -123.5,125.5
Top Courtyard:
  lines w1: -135,-135 135,-135 135,135 -135,135 -135,-135
Top Component Outline:
  lines w1: -123.03,-123.03 -123.03,123.03 123.03,123.03 123.03,-123.03 -123.03,-123.03 ; -103.94,-103.94 103.94,-103.94 103.94,103.94 -103.94,103.94 -103.94,-103.94
3D body: height 16.84, standoff -2.84, extent -104.34,-104.29 -84.75,-84.69
3D body: height 16.84, standoff -2.84, extent -72.84,-104.29 -53.26,-84.69
3D body: height 16.84, standoff -2.84, extent -41.35,-104.29 -21.76,-84.69
3D body: height 16.84, standoff -2.84, extent -9.85,-104.29 9.73,-84.69
3D body: height 16.84, standoff -2.84, extent 84.64,-104.29 104.22,-84.69
3D body: height 16.84, standoff -2.84, extent 53.14,-104.29 72.73,-84.69
3D body: height 16.84, standoff -2.84, extent 21.65,-104.29 41.23,-84.69
3D body: height 16.84, standoff -2.84, extent -104.34,-72.8 -84.75,-53.19
3D body: height 16.84, standoff -2.84, extent -72.84,-72.8 -53.26,-53.19
3D body: height 16.84, standoff -2.84, extent -41.35,-72.8 -21.76,-53.19
3D body: height 16.84, standoff -2.84, extent -9.85,-72.8 9.73,-53.19
3D body: height 16.84, standoff -2.84, extent 84.64,-72.8 104.22,-53.19
3D body: height 16.84, standoff -2.84, extent 53.14,-72.8 72.73,-53.19
3D body: height 16.84, standoff -2.84, extent 21.65,-72.8 41.23,-53.19
3D body: height 16.84, standoff -2.84, extent -104.34,-41.3 -84.75,-21.7
3D body: height 16.84, standoff -2.84, extent -72.84,-41.3 -53.26,-21.7
3D body: height 16.84, standoff -2.84, extent -41.35,-41.3 -21.76,-21.7
3D body: height 16.84, standoff -2.84, extent -9.85,-41.3 9.73,-21.7
3D body: height 16.84, standoff -2.84, extent 84.64,-41.3 104.22,-21.7
3D body: height 16.84, standoff -2.84, extent 53.14,-41.3 72.73,-21.7
3D body: height 16.84, standoff -2.84, extent 21.65,-41.3 41.23,-21.7
3D body: height 16.84, standoff -2.84, extent -104.34,-9.8 -84.75,9.8
3D body: height 16.84, standoff -2.84, extent -72.84,-9.8 -53.26,9.8
3D body: height 16.84, standoff -2.84, extent -41.35,-9.8 -21.76,9.8
3D body: height 16.84, standoff -2.84, extent -9.85,-9.8 9.73,9.8
3D body: height 16.84, standoff -2.84, extent 84.64,-9.8 104.22,9.8
3D body: height 16.84, standoff -2.84, extent 53.14,-9.8 72.73,9.8
3D body: height 16.84, standoff -2.84, extent 21.65,-9.8 41.23,9.8
3D body: height 16.84, standoff -2.84, extent -104.34,21.69 -84.75,41.3
3D body: height 16.84, standoff -2.84, extent -72.84,21.69 -53.26,41.3
3D body: height 16.84, standoff -2.84, extent -41.35,21.69 -21.76,41.3
3D body: height 16.84, standoff -2.84, extent -9.85,21.69 9.73,41.3
3D body: height 16.84, standoff -2.84, extent 84.64,21.69 104.22,41.3
3D body: height 16.84, standoff -2.84, extent 53.14,21.69 72.73,41.3
3D body: height 16.84, standoff -2.84, extent 21.65,21.69 41.23,41.3
3D body: height 16.84, standoff -2.84, extent -104.34,53.19 -84.75,72.79
3D body: height 16.84, standoff -2.84, extent -72.84,53.19 -53.26,72.79
3D body: height 16.84, standoff -2.84, extent -41.35,53.19 -21.76,72.79
3D body: height 16.84, standoff -2.84, extent -9.85,53.19 9.73,72.79
3D body: height 16.84, standoff -2.84, extent 84.64,53.19 104.22,72.79
3D body: height 16.84, standoff -2.84, extent 53.14,53.19 72.73,72.79
3D body: height 16.84, standoff -2.84, extent 21.65,53.19 41.23,72.79
3D body: height 16.84, standoff -2.84, extent -104.34,84.68 -84.75,104.29
3D body: height 16.84, standoff -2.84, extent -72.84,84.68 -53.26,104.29
3D body: height 16.84, standoff -2.84, extent -41.35,84.68 -21.76,104.29
3D body: height 16.84, standoff -2.84, extent -9.85,84.68 9.73,104.29
3D body: height 16.84, standoff -2.84, extent 84.64,84.68 104.22,104.29
3D body: height 16.84, standoff -2.84, extent 53.14,84.68 72.73,104.29
3D body: height 16.84, standoff -2.84, extent 21.65,84.68 41.23,104.29
3D body: height 62.99, standoff 15.75, extent -123.03,-123.03 123.03,123.03
3D body: height 152.36, standoff 59.06, extent -103.94,-103.94 103.94,103.94
3D body: height 153, standoff 152, extent -84.75,-84.69 -41.35,-72.8

## LTM8024 [mm]
height 3.32
pads (88):
  round 0.52 smd paste+0 mask+0: A1(-3.5,5) A2(-2.5,5) A3(-1.5,5) A4(-0.5,5) A5(0.5,5) A6(1.5,5) A7(2.5,5) A8(3.5,5) B1(-3.5,4) B2(-2.5,4) B3(-1.5,4) B4(-0.5,4) B5(0.5,4) B6(1.5,4) B7(2.5,4) B8(3.5,4) C1(-3.5,3) C2(-2.5,3) C3(-1.5,3) C4(-0.5,3) C5(0.5,3) C6(1.5,3) C7(2.5,3) C8(3.5,3) D1(-3.5,2) D2(-2.5,2) D3(-1.5,2) D4(-0.5,2) D5(0.5,2) D6(1.5,2) D7(2.5,2) D8(3.5,2) E1(-3.5,1) E2(-2.5,1) E3(-1.5,1) E4(-0.5,1) E5(0.5,1) E6(1.5,1) E7(2.5,1) E8(3.5,1) F1(-3.5,0) F2(-2.5,0) F3(-1.5,0) F4(-0.5,0) F5(0.5,0) F6(1.5,0) F7(2.5,0) F8(3.5,0) G1(-3.5,-1) G2(-2.5,-1) G3(-1.5,-1) G4(-0.5,-1) G5(0.5,-1) G6(1.5,-1) G7(2.5,-1) G8(3.5,-1) H1(-3.5,-2) H2(-2.5,-2) H3(-1.5,-2) H4(-0.5,-2) H5(0.5,-2) H6(1.5,-2) H7(2.5,-2) H8(3.5,-2) J1(-3.5,-3) J2(-2.5,-3) J3(-1.5,-3) J4(-0.5,-3) J5(0.5,-3) J6(1.5,-3) J7(2.5,-3) J8(3.5,-3) K1(-3.5,-4) K2(-2.5,-4) K3(-1.5,-4) K4(-0.5,-4) K5(0.5,-4) K6(1.5,-4) K7(2.5,-4) K8(3.5,-4) L1(-3.5,-5) L2(-2.5,-5) L3(-1.5,-5) L4(-0.5,-5) L5(0.5,-5) L6(1.5,-5) L7(2.5,-5) L8(3.5,-5)
Top Layer:
  pour cut-out: -0.5,-3.5 -2.5,-3.5 -2.598,-3.49 -2.778,-3.416 -2.916,-3.278 -2.99,-3.098 -3,-3 -3,2 -2.99,2.098 -2.916,2.278 -2.778,2.416 -2.598,2.49 -2.5,2.5 -1.5,2.5 -1.401,2.5 -1.217,2.576 -1.076,2.717 -1,2.901 -1,3 -0.99,3.098 -0.916,3.278 -0.778,3.416 -0.598,3.49 -0.5,3.5 -0.401,3.5 -0.217,3.576 -0.076,3.717 0,3.901 0,4 0,5 0,5.099 -0.076,5.283 -0.217,5.424 -0.401,5.5 -0.5,5.5 -3.5,5.5 -3.599,5.5 -3.783,5.424 -3.924,5.283 -4,5.099 -4,5 -4,-5 -4,-5.099 -3.924,-5.283 -3.783,-5.424 -3.599,-5.5 -3.5,-5.5 -0.5,-5.5 -0.401,-5.5 -0.217,-5.424 -0.076,-5.283 0,-5.099 0,-5 0,-4 0,-3.901 -0.076,-3.717 -0.217,-3.576 -0.401,-3.5
  pour cut-out: 4,3 4,5 4,5.099 3.924,5.283 3.783,5.424 3.599,5.5 3.5,5.5 1.5,5.5 1.401,5.5 1.217,5.424 1.076,5.283 1,5.099 1,5 1,3 1,2.901 1.076,2.717 1.217,2.576 1.401,2.5 1.5,2.5 3.5,2.5 3.599,2.5 3.783,2.576 3.924,2.717 4,2.901
  pour cut-out: 4,-5 4,-3 4,-2.901 3.924,-2.717 3.783,-2.576 3.599,-2.5 3.5,-2.5 1.5,-2.5 1.401,-2.5 1.217,-2.576 1.076,-2.717 1,-2.901 1,-3 1,-5 1,-5.099 1.076,-5.283 1.217,-5.424 1.401,-5.5 1.5,-5.5 3.5,-5.5 3.599,-5.5 3.783,-5.424 3.924,-5.283 4,-5.099
Top Solder:
  region: 4.258,-5.688 4.238,-5.688 4.2,-5.703 4.172,-5.732 4.156,-5.769 4.156,-5.789 4.156,-5.809 4.172,-5.847 4.2,-5.875 4.238,-5.891 4.258,-5.891 4.664,-5.891 4.684,-5.891 4.722,-5.875 4.75,-5.847 4.766,-5.809 4.766,-5.789 4.766,-5.383 4.766,-5.363 4.75,-5.325 4.722,-5.297 4.684,-5.281 4.664,-5.281 4.644,-5.281 4.607,-5.297 4.578,-5.325 4.563,-5.363 4.563,-5.383 4.563,-5.637 4.562,-5.647 4.554,-5.665 4.54,-5.679 4.522,-5.687 4.512,-5.688
  region: -4.563,-5.383 -4.563,-5.363 -4.578,-5.325 -4.607,-5.297 -4.644,-5.281 -4.664,-5.281 -4.684,-5.281 -4.722,-5.297 -4.75,-5.325 -4.766,-5.363 -4.766,-5.383 -4.766,-5.789 -4.766,-5.809 -4.75,-5.847 -4.722,-5.875 -4.684,-5.891 -4.664,-5.891 -4.258,-5.891 -4.238,-5.891 -4.2,-5.875 -4.172,-5.847 -4.156,-5.809 -4.156,-5.789 -4.156,-5.769 -4.172,-5.732 -4.2,-5.703 -4.238,-5.688 -4.258,-5.688 -4.512,-5.688 -4.522,-5.687 -4.54,-5.679 -4.554,-5.665 -4.562,-5.647 -4.563,-5.637
  region: 4.563,5.383 4.563,5.363 4.578,5.325 4.607,5.297 4.644,5.281 4.664,5.281 4.684,5.281 4.722,5.297 4.75,5.325 4.766,5.363 4.766,5.383 4.766,5.789 4.766,5.809 4.75,5.847 4.722,5.875 4.684,5.891 4.664,5.891 4.258,5.891 4.238,5.891 4.2,5.875 4.172,5.847 4.156,5.809 4.156,5.789 4.156,5.769 4.172,5.732 4.2,5.703 4.238,5.688 4.258,5.688 4.512,5.688 4.522,5.687 4.54,5.679 4.554,5.665 4.562,5.647 4.563,5.637
  region: -4.766,5.891 -4.766,5.166 -4.041,5.891
Top Courtyard:
  lines w0.025: -5.08,-6.223 5.08,-6.223 5.08,6.223 -5.08,6.223 -5.08,-6.223
Top Component Outline:
  lines w0.025: -4.5,-5.625 4.5,-5.625 4.5,5.625 -4.5,5.625 -4.5,-5.625
3D body: height 3.32, standoff 0.3, extent -4.5,-5.625 4.5,5.625
3D body: height 0.43, standoff -0.17, extent -3.798,4.7 -3.202,5.3
3D body: height 0.43, standoff -0.17, extent -2.798,4.7 -2.202,5.3
3D body: height 0.43, standoff -0.17, extent -1.798,4.7 -1.202,5.3
3D body: height 0.43, standoff -0.17, extent -0.798,4.7 -0.202,5.3
3D body: height 0.43, standoff -0.17, extent 0.202,4.7 0.798,5.3
3D body: height 0.43, standoff -0.17, extent 1.202,4.7 1.798,5.3
3D body: height 0.43, standoff -0.17, extent 2.202,4.7 2.798,5.3
3D body: height 0.43, standoff -0.17, extent 3.202,4.7 3.798,5.3
3D body: height 0.43, standoff -0.17, extent -3.798,3.7 -3.202,4.3
3D body: height 0.43, standoff -0.17, extent -2.798,3.7 -2.202,4.3
3D body: height 0.43, standoff -0.17, extent -1.798,3.7 -1.202,4.3
3D body: height 0.43, standoff -0.17, extent -0.798,3.7 -0.202,4.3
3D body: height 0.43, standoff -0.17, extent 0.202,3.7 0.798,4.3
3D body: height 0.43, standoff -0.17, extent 1.202,3.7 1.798,4.3
3D body: height 0.43, standoff -0.17, extent 2.202,3.7 2.798,4.3
3D body: height 0.43, standoff -0.17, extent 3.202,3.7 3.798,4.3
3D body: height 0.43, standoff -0.17, extent -3.798,2.7 -3.202,3.3
3D body: height 0.43, standoff -0.17, extent -2.798,2.7 -2.202,3.3
3D body: height 0.43, standoff -0.17, extent -1.798,2.7 -1.202,3.3
3D body: height 0.43, standoff -0.17, extent -0.798,2.7 -0.202,3.3
3D body: height 0.43, standoff -0.17, extent 0.202,2.7 0.798,3.3
3D body: height 0.43, standoff -0.17, extent 1.202,2.7 1.798,3.3
3D body: height 0.43, standoff -0.17, extent 2.202,2.7 2.798,3.3
3D body: height 0.43, standoff -0.17, extent 3.202,2.7 3.798,3.3
3D body: height 0.43, standoff -0.17, extent -3.798,1.7 -3.202,2.3
3D body: height 0.43, standoff -0.17, extent -2.798,1.7 -2.202,2.3
3D body: height 0.43, standoff -0.17, extent -1.798,1.7 -1.202,2.3
3D body: height 0.43, standoff -0.17, extent -0.798,1.7 -0.202,2.3
3D body: height 0.43, standoff -0.17, extent 0.202,1.7 0.798,2.3
3D body: height 0.43, standoff -0.17, extent 1.202,1.7 1.798,2.3
3D body: height 0.43, standoff -0.17, extent 2.202,1.7 2.798,2.3
3D body: height 0.43, standoff -0.17, extent 3.202,1.7 3.798,2.3
3D body: height 0.43, standoff -0.17, extent -3.798,0.7 -3.202,1.3
3D body: height 0.43, standoff -0.17, extent -2.798,0.7 -2.202,1.3
3D body: height 0.43, standoff -0.17, extent -1.798,0.7 -1.202,1.3
3D body: height 0.43, standoff -0.17, extent -0.798,0.7 -0.202,1.3
3D body: height 0.43, standoff -0.17, extent 0.202,0.7 0.798,1.3
3D body: height 0.43, standoff -0.17, extent 1.202,0.7 1.798,1.3
3D body: height 0.43, standoff -0.17, extent 2.202,0.7 2.798,1.3
3D body: height 0.43, standoff -0.17, extent 3.202,0.7 3.798,1.3
3D body: height 0.43, standoff -0.17, extent -3.798,-0.3 -3.202,0.3
3D body: height 0.43, standoff -0.17, extent -2.798,-0.3 -2.202,0.3
3D body: height 0.43, standoff -0.17, extent -1.798,-0.3 -1.202,0.3
3D body: height 0.43, standoff -0.17, extent -0.798,-0.3 -0.202,0.3
3D body: height 0.43, standoff -0.17, extent 0.202,-0.3 0.798,0.3
3D body: height 0.43, standoff -0.17, extent 1.202,-0.3 1.798,0.3
3D body: height 0.43, standoff -0.17, extent 2.202,-0.3 2.798,0.3
3D body: height 0.43, standoff -0.17, extent 3.202,-0.3 3.798,0.3
3D body: height 0.43, standoff -0.17, extent -3.798,-1.3 -3.202,-0.7
3D body: height 0.43, standoff -0.17, extent -2.798,-1.3 -2.202,-0.7
3D body: height 0.43, standoff -0.17, extent -1.798,-1.3 -1.202,-0.7
3D body: height 0.43, standoff -0.17, extent -0.798,-1.3 -0.202,-0.7
3D body: height 0.43, standoff -0.17, extent 0.202,-1.3 0.798,-0.7
3D body: height 0.43, standoff -0.17, extent 1.202,-1.3 1.798,-0.7
3D body: height 0.43, standoff -0.17, extent 2.202,-1.3 2.798,-0.7
3D body: height 0.43, standoff -0.17, extent 3.202,-1.3 3.798,-0.7
3D body: height 0.43, standoff -0.17, extent -3.798,-2.3 -3.202,-1.7
3D body: height 0.43, standoff -0.17, extent -2.798,-2.3 -2.202,-1.7
3D body: height 0.43, standoff -0.17, extent -1.798,-2.3 -1.202,-1.7
3D body: height 0.43, standoff -0.17, extent -0.798,-2.3 -0.202,-1.7
3D body: height 0.43, standoff -0.17, extent 0.202,-2.3 0.798,-1.7
3D body: height 0.43, standoff -0.17, extent 1.202,-2.3 1.798,-1.7
3D body: height 0.43, standoff -0.17, extent 2.202,-2.3 2.798,-1.7
3D body: height 0.43, standoff -0.17, extent 3.202,-2.3 3.798,-1.7
3D body: height 0.43, standoff -0.17, extent -3.798,-3.3 -3.202,-2.7
3D body: height 0.43, standoff -0.17, extent -2.798,-3.3 -2.202,-2.7
3D body: height 0.43, standoff -0.17, extent -1.798,-3.3 -1.202,-2.7
3D body: height 0.43, standoff -0.17, extent -0.798,-3.3 -0.202,-2.7
3D body: height 0.43, standoff -0.17, extent 0.202,-3.3 0.798,-2.7
3D body: height 0.43, standoff -0.17, extent 1.202,-3.3 1.798,-2.7
3D body: height 0.43, standoff -0.17, extent 2.202,-3.3 2.798,-2.7
3D body: height 0.43, standoff -0.17, extent 3.202,-3.3 3.798,-2.7
3D body: height 0.43, standoff -0.17, extent -3.798,-4.3 -3.202,-3.7
3D body: height 0.43, standoff -0.17, extent -2.798,-4.3 -2.202,-3.7
3D body: height 0.43, standoff -0.17, extent -1.798,-4.3 -1.202,-3.7
3D body: height 0.43, standoff -0.17, extent -0.798,-4.3 -0.202,-3.7
3D body: height 0.43, standoff -0.17, extent 0.202,-4.3 0.798,-3.7
3D body: height 0.43, standoff -0.17, extent 1.202,-4.3 1.798,-3.7
3D body: height 0.43, standoff -0.17, extent 2.202,-4.3 2.798,-3.7
3D body: height 0.43, standoff -0.17, extent 3.202,-4.3 3.798,-3.7
3D body: height 0.43, standoff -0.17, extent -3.798,-5.3 -3.202,-4.7
3D body: height 0.43, standoff -0.17, extent -2.798,-5.3 -2.202,-4.7
3D body: height 0.43, standoff -0.17, extent -1.798,-5.3 -1.202,-4.7
3D body: height 0.43, standoff -0.17, extent -0.798,-5.3 -0.202,-4.7
3D body: height 0.43, standoff -0.17, extent 0.202,-5.3 0.798,-4.7
3D body: height 0.43, standoff -0.17, extent 1.202,-5.3 1.798,-4.7
3D body: height 0.43, standoff -0.17, extent 2.202,-5.3 2.798,-4.7
3D body: height 0.43, standoff -0.17, extent 3.202,-5.3 3.798,-4.7

## LTM8068 [mil]
pads (38):
  round 28 smd mask-1.5: A1(-150,175) A2(-100,175) A3(-50,175) A4(0,175) A5(50,175) A6(100,175) A7(150,175) B1(-150,125) B2(-100,125) B3(-50,125) B4(0,125) B5(50,125) B6(100,125) B7(150,125) E1(-150,-25) E2(-100,-25) E3(-50,-25) E4(0,-25) E5(50,-25) E6(100,-25) E7(150,-25) F3(-50,-75) F4(0,-75) F5(50,-75) F6(100,-75) F7(150,-75) G1(-150,-125) G2(-100,-125) G4(0,-125) G5(50,-125) G6(100,-125) G7(150,-125) H1(-150,-175) H2(-100,-175) H4(0,-175) H5(50,-175) H6(100,-175) H7(150,-175)
Top Layer:
  pour cut-out: 150,-100 145.03,-100 135.84,-103.81 128.81,-110.84 125,-120.03 125,-125 125,-129.97 128.81,-139.16 135.84,-146.19 145.03,-150 150,-150 154.97,-150 164.16,-146.19 171.19,-139.16 175,-129.97 175,-125 175,-120.03 171.19,-110.84 164.16,-103.81 154.97,-100
  pour cut-out: -150,-100 -154.97,-100 -164.16,-103.81 -171.19,-110.84 -175,-120.03 -175,-125 -175,-175 -175,-179.97 -171.19,-189.16 -164.16,-196.19 -154.97,-200 -150,-200 -100,-200 -95.03,-200 -85.84,-196.19 -78.81,-189.16 -75,-179.97 -75,-175 -75,-125 -74.52,-120.12 -70.79,-111.11 -63.89,-104.21 -54.88,-100.48 -50,-100 -45.03,-100 -35.84,-96.19 -28.81,-89.16 -25,-79.97 -25,-75 -25,-70.03 -28.81,-60.84 -35.84,-53.81 -45.03,-50 -50,-50 -54.97,-50 -64.16,-53.81 -71.19,-60.84 -75,-70.03 -75,-75 -75.48,-79.88 -79.21,-88.89 -86.11,-95.79 -95.12,-99.52 -100,-100
  pour cut-out: -100,200 -104.97,200 -114.16,196.19 -121.19,189.16 -125,179.97 -125,175 -125,125 -125,120.03 -121.19,110.84 -114.16,103.81 -104.97,100 -100,100 150,100 154.97,100 164.16,103.81 171.19,110.84 175,120.03 175,125 175,175 175,179.97 171.19,189.16 164.16,196.19 154.97,200 150,200
Top Solder:
  region: 179.63,211.92 179.63,211.13 180.24,209.66 181.36,208.53 182.83,207.92 183.63,207.92 184.42,207.92 185.89,208.53 187.02,209.66 187.63,211.13 187.63,211.92 187.63,227.92 187.63,228.72 187.02,230.19 185.89,231.31 184.42,231.92 183.63,231.92 167.63,231.92 166.83,231.92 165.36,231.31 164.24,230.19 163.63,228.72 163.63,227.92 163.63,227.13 164.24,225.66 165.36,224.53 166.83,223.92 167.63,223.92 177.63,223.92 178.02,223.88 178.74,223.58 179.29,223.03 179.59,222.31 179.63,221.92
  region: 167.63,-223.92 166.83,-223.92 165.36,-224.53 164.24,-225.65 163.63,-227.12 163.63,-227.92 163.63,-228.72 164.24,-230.19 165.36,-231.31 166.83,-231.92 167.63,-231.92 183.63,-231.92 184.43,-231.92 185.9,-231.31 187.02,-230.19 187.63,-228.72 187.63,-227.92 187.63,-211.92 187.63,-211.12 187.02,-209.65 185.9,-208.53 184.43,-207.92 183.63,-207.92 182.83,-207.92 181.36,-208.53 180.24,-209.65 179.63,-211.12 179.63,-211.92 179.63,-221.92 179.59,-222.31 179.29,-223.03 178.74,-223.58 178.02,-223.88 177.63,-223.92
  region: -179.63,-211.92 -179.63,-211.13 -180.24,-209.66 -181.36,-208.53 -182.83,-207.92 -183.63,-207.92 -184.42,-207.92 -185.89,-208.53 -187.02,-209.66 -187.63,-211.13 -187.63,-211.92 -187.63,-227.92 -187.63,-228.72 -187.02,-230.19 -185.89,-231.31 -184.42,-231.92 -183.63,-231.92 -167.63,-231.92 -166.83,-231.92 -165.36,-231.31 -164.24,-230.19 -163.63,-228.72 -163.63,-227.92 -163.63,-227.13 -164.24,-225.66 -165.36,-224.53 -166.83,-223.92 -167.63,-223.92 -177.63,-223.92 -178.02,-223.88 -178.74,-223.58 -179.29,-223.03 -179.59,-222.31 -179.63,-221.92
  region: -187.63,231.92 -187.63,203.38 -159.09,231.92
Top Courtyard:
  lines w1: -190,-235 190,-235 190,235 -190,235 -190,-235
Top Component Outline:
  lines w1: -177.17,-221.46 177.17,-221.46 177.17,221.46 -177.17,221.46 -177.17,-221.46
3D body: height 23.76, standoff -5.76, extent -164.66,-189.61 -135.33,-160.11
3D body: height 23.76, standoff -5.76, extent -114.66,-189.61 -85.33,-160.11
3D body: height 23.76, standoff -5.76, extent -14.66,-189.61 14.67,-160.11
3D body: height 23.76, standoff -5.76, extent 35.34,-189.61 64.67,-160.11
3D body: height 23.76, standoff -5.76, extent 85.34,-189.61 114.67,-160.11
3D body: height 23.76, standoff -5.76, extent 135.34,-189.61 164.67,-160.11
3D body: height 23.76, standoff -5.76, extent -164.66,-139.61 -135.33,-110.11
3D body: height 23.76, standoff -5.76, extent -114.66,-139.61 -85.33,-110.11
3D body: height 23.76, standoff -5.76, extent -14.66,-139.61 14.67,-110.11
3D body: height 23.76, standoff -5.76, extent 35.34,-139.61 64.67,-110.11
3D body: height 23.76, standoff -5.76, extent 85.34,-139.61 114.67,-110.11
3D body: height 23.76, standoff -5.76, extent 135.34,-139.61 164.67,-110.11
3D body: height 23.76, standoff -5.76, extent -64.66,-89.61 -35.33,-60.11
3D body: height 23.76, standoff -5.76, extent -14.66,-89.61 14.67,-60.11
3D body: height 23.76, standoff -5.76, extent 35.34,-89.61 64.67,-60.11
3D body: height 23.76, standoff -5.76, extent 85.34,-89.61 114.67,-60.11
3D body: height 23.76, standoff -5.76, extent 135.34,-89.61 164.67,-60.11
3D body: height 23.76, standoff -5.76, extent 135.33,-39.89 164.66,-10.39
3D body: height 23.76, standoff -5.76, extent 85.33,-39.89 114.66,-10.39
3D body: height 23.76, standoff -5.76, extent 35.33,-39.89 64.66,-10.39
3D body: height 23.76, standoff -5.76, extent -14.67,-39.89 14.66,-10.39
3D body: height 23.76, standoff -5.76, extent -64.67,-39.89 -35.34,-10.39
3D body: height 23.76, standoff -5.76, extent -114.67,-39.89 -85.34,-10.39
3D body: height 23.76, standoff -5.76, extent -164.67,-39.89 -135.34,-10.39
3D body: height 23.76, standoff -5.76, extent 135.33,110.11 164.66,139.61
3D body: height 23.76, standoff -5.76, extent 85.33,110.11 114.66,139.61
3D body: height 23.76, standoff -5.76, extent 35.33,110.11 64.66,139.61
3D body: height 23.76, standoff -5.76, extent -14.67,110.11 14.66,139.61
3D body: height 23.76, standoff -5.76, extent -64.67,110.11 -35.34,139.61
3D body: height 23.76, standoff -5.76, extent -114.67,110.11 -85.34,139.61
3D body: height 23.76, standoff -5.76, extent -164.67,110.11 -135.34,139.61
3D body: height 23.76, standoff -5.76, extent 135.33,160.11 164.66,189.61
3D body: height 23.76, standoff -5.76, extent 85.33,160.11 114.66,189.61
3D body: height 23.76, standoff -5.76, extent 35.33,160.11 64.66,189.61
3D body: height 23.76, standoff -5.76, extent -14.67,160.11 14.66,189.61
3D body: height 23.76, standoff -5.76, extent -64.67,160.11 -35.34,189.61
3D body: height 23.76, standoff -5.76, extent -114.67,160.11 -85.34,189.61
3D body: height 23.76, standoff -5.76, extent -164.67,160.11 -135.34,189.61
3D body: height 193.7, standoff 19.68, extent -177.17,-221.46 177.17,221.46